# Altium integrated library IR Rectifier - Schottky.IntLib: 340 symbols (part 3 of 5)
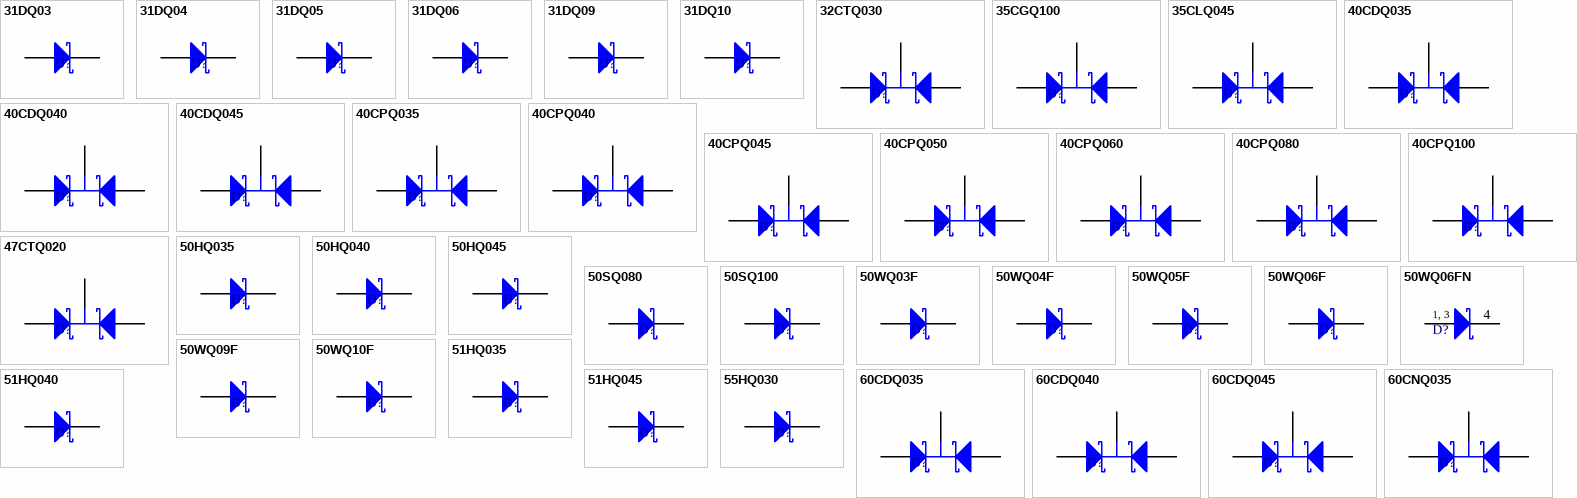
[diagram p10: symbols 31DQ03 to 60CNQ035]

## 55HQ030
designator D?
Schottky Rectifier; Note: No PCB Footprint Available; Published: 8-Jun-2000; LatestRevisionDate: 17-Jul-2002; LatestRevisionNote: Re-released for DXP Platform.; DatasheetDocument: Dec-1997; PackageReference: DO-203AB; Publisher: Altium Limited; ComponentLink1Description: Manufacturer Link; ComponentLink1URL: http://www.irf.com/; ComponentLink2Description: Datasheet; ComponentLink2URL: http://www.irf.com/product-info/datasheets/data/55hq030.pdf
simulation model 55HQ030 (DIODE)
signal-integrity model 55HQ030
pins: 1 A, 2 K

## 60CDQ035
designator D?
Schottky Rectifier; Published: 8-Jun-2000; LatestRevisionDate: 17-Jul-2002; LatestRevisionNote: Re-released for DXP Platform.; DatasheetDocument: Dec-1997; PackageReference: TO-204AE; Publisher: Altium Limited; ComponentLink1Description: Manufacturer Link; ComponentLink1URL: http://www.irf.com/; ComponentLink2Description: Datasheet; ComponentLink2URL: http://www.irf.com/product-info/datasheets/data/60cdq.pdf
footprint TO-204AE (Oval Flange Mount with (2) Offset Leads; Pin Spacing 10.92 mm; Lead Dia. 1.57 mm (max))
simulation model 60CDQ035 (SUBCKT)
signal-integrity model 60CDQ035
pins: 1 A1, 2 A2, 3 K

## 60CDQ040
designator D?
Schottky Rectifier; Published: 8-Jun-2000; LatestRevisionDate: 17-Jul-2002; LatestRevisionNote: Re-released for DXP Platform.; DatasheetDocument: Dec-1997; PackageReference: TO-204AE; Publisher: Altium Limited; ComponentLink1Description: Manufacturer Link; ComponentLink1URL: http://www.irf.com/; ComponentLink2Description: Datasheet; ComponentLink2URL: http://www.irf.com/product-info/datasheets/data/60cdq.pdf
footprint TO-204AE (Oval Flange Mount with (2) Offset Leads; Pin Spacing 10.92 mm; Lead Dia. 1.57 mm (max))
simulation model 60CDQ040 (SUBCKT)
signal-integrity model 60CDQ040
pins: 1 A1, 2 A2, 3 K

## 60CDQ045
designator D?
Schottky Rectifier; Published: 8-Jun-2000; LatestRevisionDate: 17-Jul-2002; LatestRevisionNote: Re-released for DXP Platform.; DatasheetDocument: Dec-1997; PackageReference: TO-204AE; Publisher: Altium Limited; ComponentLink1Description: Manufacturer Link; ComponentLink1URL: http://www.irf.com/; ComponentLink2Description: Datasheet; ComponentLink2URL: http://www.irf.com/product-info/datasheets/data/60cdq.pdf
footprint TO-204AE (Oval Flange Mount with (2) Offset Leads; Pin Spacing 10.92 mm; Lead Dia. 1.57 mm (max))
simulation model 60CDQ045 (SUBCKT)
signal-integrity model 60CDQ045
pins: 1 A1, 2 A2, 3 K

## 60CNQ035
designator D?
Schottky Rectifier; Note: Pin 2 (cathode) is electrically connected to BASE; Published: 8-Jun-2000; LatestRevisionDate: 17-Jul-2002; LatestRevisionNote: Re-released for DXP Platform.; DatasheetDocument: Dec-1997; PackageReference: D-61-6; Publisher: Altium Limited; ComponentLink1Description: Manufacturer Link; ComponentLink1URL: http://www.irf.com/; ComponentLink2Description: Datasheet; ComponentLink2URL: http://www.irf.com/product-info/datasheets/data/60cnq.pdf
footprint D-61-6 (Rectangular Flange Mount, Thru-Hole; 3 Leads; Pitch 5.08 mm)
signal-integrity model 60CNQ035
pins: 1 A1, 2 K, 3 A2

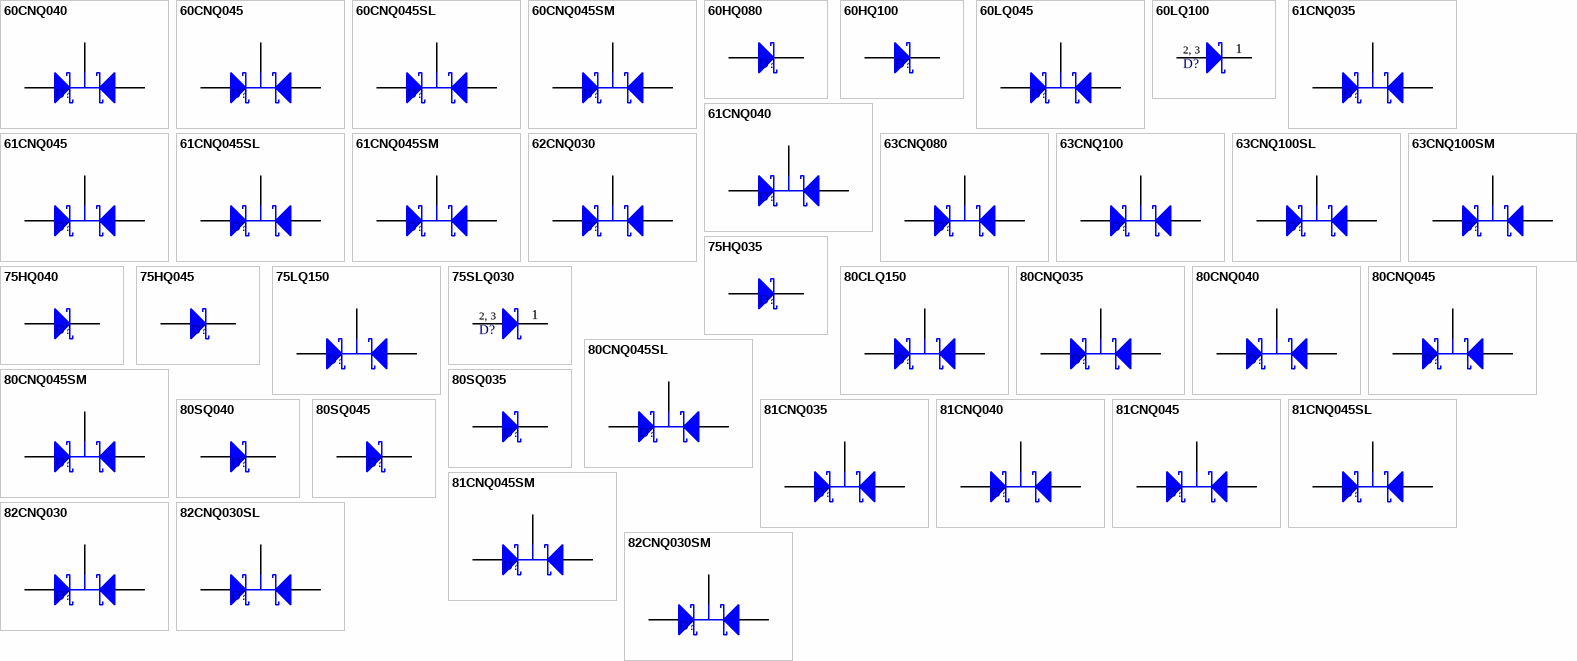
[diagram p4: symbols 60CNQ040 to 82CNQ030SM]

## 60CNQ040
designator D?
Schottky Rectifier; Note: Pin 2 (cathode) is electrically connected to BASE; Published: 8-Jun-2000; LatestRevisionDate: 17-Jul-2002; LatestRevisionNote: Re-released for DXP Platform.; DatasheetDocument: Dec-1997; PackageReference: D-61-6; Publisher: Altium Limited; ComponentLink1Description: Manufacturer Link; ComponentLink1URL: http://www.irf.com/; ComponentLink2Description: Datasheet; ComponentLink2URL: http://www.irf.com/product-info/datasheets/data/60cnq.pdf
footprint D-61-6 (Rectangular Flange Mount, Thru-Hole; 3 Leads; Pitch 5.08 mm)
signal-integrity model 60CNQ040
pins: 1 A1, 2 K, 3 A2

## 60CNQ045
designator D?
Schottky Rectifier; Note: Pin 2 (cathode) is electrically connected to BASE; Published: 8-Jun-2000; LatestRevisionDate: 17-Jul-2002; LatestRevisionNote: Re-released for DXP Platform.; DatasheetDocument: Dec-1997; PackageReference: D-61-6; Publisher: Altium Limited; ComponentLink1Description: Manufacturer Link; ComponentLink1URL: http://www.irf.com/; ComponentLink2Description: Datasheet; ComponentLink2URL: http://www.irf.com/product-info/datasheets/data/60cnq.pdf
footprint D-61-6 (Rectangular Flange Mount, Thru-Hole; 3 Leads; Pitch 5.08 mm)
signal-integrity model 60CNQ045
pins: 1 A1, 2 K, 3 A2

## 60CNQ045SL
designator D?
Schottky Rectifier; Note: Pin 2 (cathode) is trimmed but is electrically connected to BASE; Published: 8-Jun-2000; LatestRevisionDate: 17-Jul-2002; LatestRevisionNote: Re-released for DXP Platform.; DatasheetDocument: Aug-1995; PackageDocument: Aug-1995; PackageReference: SLD61-6; Publisher: Altium Limited; ComponentLink1Description: Manufacturer Link; ComponentLink1URL: http://www.irf.com/
footprint SLD61-6 (Single-Ended SM Package; 3 Leads (1 Cropped); Body (inc. leads) 14.3 x 20 mm (LxW max))
signal-integrity model 60CNQ045SL
pins: 1 A1, 2 K, 3 A2

## 60CNQ045SM
designator D?
Schottky Rectifier; Note: Pin 2 (cathode) is electrically connected to BASE; Published: 8-Jun-2000; LatestRevisionDate: 17-Jul-2002; LatestRevisionNote: Re-released for DXP Platform.; DatasheetDocument: Aug-1995; PackageReference: SMD61-6; Publisher: Altium Limited; ComponentLink1Description: Manufacturer Link; ComponentLink1URL: http://www.irf.com/
footprint SMD61-6 (Rectangular Flange Mount, Thru-Hole; 3 Leads; Pitch 5.08 mm)
signal-integrity model 60CNQ045SM
pins: 1 A1, 2 K, 3 A2

## 60HQ080
designator D?
Schottky Rectifier; Note: No PCB Footprint Available; Published: 8-Jun-2000; LatestRevisionDate: 17-Jul-2002; LatestRevisionNote: Re-released for DXP Platform.; DatasheetDocument: Dec-1997; PackageReference: DO-203AB; Publisher: Altium Limited; ComponentLink1Description: Manufacturer Link; ComponentLink1URL: http://www.irf.com/; ComponentLink2Description: Datasheet; ComponentLink2URL: http://www.irf.com/product-info/datasheets/data/60hq.pdf
simulation model 60HQ080 (DIODE)
signal-integrity model 60HQ080
pins: 1 A, 2 K

## 60HQ100
designator D?
Schottky Rectifier; Note: No PCB Footprint Available; Published: 8-Jun-2000; LatestRevisionDate: 17-Jul-2002; LatestRevisionNote: Re-released for DXP Platform.; DatasheetDocument: Dec-1997; PackageReference: DO-203AB; Publisher: Altium Limited; ComponentLink1Description: Manufacturer Link; ComponentLink1URL: http://www.irf.com/; ComponentLink2Description: Datasheet; ComponentLink2URL: http://www.irf.com/product-info/datasheets/data/60hq.pdf
simulation model 60HQ100 (DIODE)
signal-integrity model 60HQ100
pins: 1 A, 2 K

## 60LQ045
designator D?
Schottky Rectifier; Published: 17-Sep-2003; DatasheetDocument: 20-Mar-2002; PackageDocument: 10-Jul-2001; PackageReference: SMD-1; Publisher: Altium Limited; ComponentLink1Description: Manufacturer Link; ComponentLink1URL: http://www.irf.com/; ComponentLink2Description: Datasheet; ComponentLink2URL: http://www.irf.com/product-info/datasheets/data/60LQ045.pdf
footprint SMD-1 (SM; 3 Leadless Terminals; Body 16 x 11.55 x 3.58 mm (LxWxH))
simulation model 60LQ045 (SUBCKT)
pins: 1 K, 2 A1, 3 A2

## 60LQ100
designator D?
Schottky Rectifier; Published: 17-Sep-2003; DatasheetDocument: PD-20505A; PackageDocument: 10-Jul-2001; PackageReference: SMD-1; Publisher: Altium Limited; ComponentLink1Description: Manufacturer Link; ComponentLink1URL: http://www.irf.com/; ComponentLink2Description: Datasheet; ComponentLink2URL: http://www.irf.com/product-info/datasheets/data/60LQ100.pdf
footprint SMD-1 (SM; 3 Leadless Terminals; Body 16 x 11.55 x 3.58 mm (LxWxH))
simulation model 60LQ100 (DIODE)
pins: 1 K, 2 A1, 3 A2
text: 2, 3

## 61CNQ035
designator D?
Schottky Rectifier; Note: Pin 2 (cathode) is electrically connected to BASE; Published: 8-Jun-2000; LatestRevisionDate: 17-Jul-2002; LatestRevisionNote: Re-released for DXP Platform.; DatasheetDocument: Dec-1997; PackageReference: D-61-6; Publisher: Altium Limited; ComponentLink1Description: Manufacturer Link; ComponentLink1URL: http://www.irf.com/; ComponentLink2Description: Datasheet; ComponentLink2URL: http://www.irf.com/product-info/datasheets/data/61cnq.pdf
footprint D-61-6 (Rectangular Flange Mount, Thru-Hole; 3 Leads; Pitch 5.08 mm)
signal-integrity model 61CNQ035
pins: 1 A1, 2 K, 3 A2

## 61CNQ040
designator D?
Schottky Rectifier; Note: Pin 2 (cathode) is electrically connected to BASE; Published: 8-Jun-2000; LatestRevisionDate: 17-Jul-2002; LatestRevisionNote: Re-released for DXP Platform.; DatasheetDocument: Dec-1997; PackageReference: D-61-6; Publisher: Altium Limited; ComponentLink1Description: Manufacturer Link; ComponentLink1URL: http://www.irf.com/; ComponentLink2Description: Datasheet; ComponentLink2URL: http://www.irf.com/product-info/datasheets/data/61cnq.pdf
footprint D-61-6 (Rectangular Flange Mount, Thru-Hole; 3 Leads; Pitch 5.08 mm)
signal-integrity model 61CNQ040
pins: 1 A1, 2 K, 3 A2

## 61CNQ045
designator D?
Schottky Rectifier; Note: Pin 2 (cathode) is electrically connected to BASE; Published: 8-Jun-2000; LatestRevisionDate: 17-Jul-2002; LatestRevisionNote: Re-released for DXP Platform.; DatasheetDocument: Dec-1997; PackageReference: D-61-6; Publisher: Altium Limited; ComponentLink1Description: Manufacturer Link; ComponentLink1URL: http://www.irf.com/; ComponentLink2Description: Datasheet; ComponentLink2URL: http://www.irf.com/product-info/datasheets/data/61cnq.pdf
footprint D-61-6 (Rectangular Flange Mount, Thru-Hole; 3 Leads; Pitch 5.08 mm)
signal-integrity model 61CNQ045
pins: 1 A1, 2 K, 3 A2

## 61CNQ045SL
designator D?
Schottky Rectifier; Note: Pin 2 (cathode) is trimmed but is electrically connected to BASE; Published: 8-Jun-2000; LatestRevisionDate: 17-Jul-2002; LatestRevisionNote: Re-released for DXP Platform.; DatasheetDocument: Aug-1995; PackageDocument: Aug-1995; PackageReference: SLD61-6; Publisher: Altium Limited; ComponentLink1Description: Manufacturer Link; ComponentLink1URL: http://www.irf.com/
footprint SLD61-6 (Single-Ended SM Package; 3 Leads (1 Cropped); Body (inc. leads) 14.3 x 20 mm (LxW max))
signal-integrity model 61CNQ045SL
pins: 1 A1, 2 K, 3 A2

## 61CNQ045SM
designator D?
Schottky Rectifier; Note: Pin 2 (cathode) is electrically connected to BASE; Published: 8-Jun-2000; LatestRevisionDate: 17-Jul-2002; LatestRevisionNote: Re-released for DXP Platform.; DatasheetDocument: Aug-1995; PackageReference: SMD61-6; Publisher: Altium Limited; ComponentLink1Description: Manufacturer Link; ComponentLink1URL: http://www.irf.com/
footprint SMD61-6 (Rectangular Flange Mount, Thru-Hole; 3 Leads; Pitch 5.08 mm)
signal-integrity model 61CNQ045SM
pins: 1 A1, 2 K, 3 A2

## 62CNQ030
designator D?
Schottky Rectifier; Note: Pin 2 (cathode) is electrically connected to BASE; Published: 8-Jun-2000; LatestRevisionDate: 17-Jul-2002; LatestRevisionNote: Re-released for DXP Platform.; DatasheetDocument: Dec-1997; PackageReference: D-61-6; Publisher: Altium Limited; ComponentLink1Description: Manufacturer Link; ComponentLink1URL: http://www.irf.com/; ComponentLink2Description: Datasheet; ComponentLink2URL: http://www.irf.com/product-info/datasheets/data/62cnq030.pdf
footprint D-61-6 (Rectangular Flange Mount, Thru-Hole; 3 Leads; Pitch 5.08 mm)
signal-integrity model 62CNQ030
pins: 1 A1, 2 K, 3 A2

## 63CNQ080
designator D?
Schottky Rectifier; Note: Pin 2 (cathode) is electrically connected to BASE; Published: 8-Jun-2000; LatestRevisionDate: 17-Jul-2002; LatestRevisionNote: Re-released for DXP Platform.; DatasheetDocument: Dec-1997; PackageReference: D-61-6; Publisher: Altium Limited; ComponentLink1Description: Manufacturer Link; ComponentLink1URL: http://www.irf.com/; ComponentLink2Description: Datasheet; ComponentLink2URL: http://www.irf.com/product-info/datasheets/data/63cnq.pdf
footprint D-61-6 (Rectangular Flange Mount, Thru-Hole; 3 Leads; Pitch 5.08 mm)
signal-integrity model 63CNQ080
pins: 1 A1, 2 K, 3 A2

## 63CNQ100
designator D?
Schottky Rectifier; Note: Pin 2 (cathode) is electrically connected to BASE; Published: 8-Jun-2000; LatestRevisionDate: 17-Jul-2002; LatestRevisionNote: Re-released for DXP Platform.; DatasheetDocument: Dec-1997; PackageReference: D-61-6; Publisher: Altium Limited; ComponentLink1Description: Manufacturer Link; ComponentLink1URL: http://www.irf.com/; ComponentLink2Description: Datasheet; ComponentLink2URL: http://www.irf.com/product-info/datasheets/data/63cnq.pdf
footprint D-61-6 (Rectangular Flange Mount, Thru-Hole; 3 Leads; Pitch 5.08 mm)
signal-integrity model 63CNQ100
pins: 1 A1, 2 K, 3 A2

## 63CNQ100SL
designator D?
Schottky Rectifier; Note: Pin 2 (cathode) is trimmed but is electrically connected to BASE; Published: 8-Jun-2000; LatestRevisionDate: 17-Jul-2002; LatestRevisionNote: Re-released for DXP Platform.; DatasheetDocument: Aug-1995; PackageDocument: Aug-1995; PackageReference: SLD61-6; Publisher: Altium Limited; ComponentLink1Description: Manufacturer Link; ComponentLink1URL: http://www.irf.com/
footprint SLD61-6 (Single-Ended SM Package; 3 Leads (1 Cropped); Body (inc. leads) 14.3 x 20 mm (LxW max))
signal-integrity model 63CNQ100SL
pins: 1 A1, 2 K, 3 A2

## 63CNQ100SM
designator D?
Schottky Rectifier; Note: Pin 2 (cathode) is electrically connected to BASE; Published: 8-Jun-2000; LatestRevisionDate: 17-Jul-2002; LatestRevisionNote: Re-released for DXP Platform.; DatasheetDocument: Aug-1995; PackageReference: SMD61-6; Publisher: Altium Limited; ComponentLink1Description: Manufacturer Link; ComponentLink1URL: http://www.irf.com/
footprint SMD61-6 (Rectangular Flange Mount, Thru-Hole; 3 Leads; Pitch 5.08 mm)
signal-integrity model 63CNQ100SM
pins: 1 A1, 2 K, 3 A2

## 75HQ035
designator D?
Schottky Rectifier; Note: No PCB Footprint Available; Published: 8-Jun-2000; LatestRevisionDate: 17-Jul-2002; LatestRevisionNote: Re-released for DXP Platform.; DatasheetDocument: Dec-1997; PackageReference: DO-203AB; Publisher: Altium Limited; ComponentLink1Description: Manufacturer Link; ComponentLink1URL: http://www.irf.com/; ComponentLink2Description: Datasheet; ComponentLink2URL: http://www.irf.com/product-info/datasheets/data/75hq.pdf
simulation model 75HQ035 (DIODE)
signal-integrity model 75HQ035
pins: 1 A, 2 K

## 75HQ040
designator D?
Schottky Rectifier; Note: No PCB Footprint Available; Published: 8-Jun-2000; LatestRevisionDate: 17-Jul-2002; LatestRevisionNote: Re-released for DXP Platform.; DatasheetDocument: Dec-1997; PackageReference: DO-203AB; Publisher: Altium Limited; ComponentLink1Description: Manufacturer Link; ComponentLink1URL: http://www.irf.com/; ComponentLink2Description: Datasheet; ComponentLink2URL: http://www.irf.com/product-info/datasheets/data/75hq.pdf
simulation model 75HQ040 (DIODE)
signal-integrity model 75HQ040
pins: 1 A, 2 K

## 75HQ045
designator D?
Schottky Rectifier; Note: No PCB Footprint Available; Published: 8-Jun-2000; LatestRevisionDate: 17-Jul-2002; LatestRevisionNote: Re-released for DXP Platform.; DatasheetDocument: Dec-1997; PackageReference: DO-203AB; Publisher: Altium Limited; ComponentLink1Description: Manufacturer Link; ComponentLink1URL: http://www.irf.com/; ComponentLink2Description: Datasheet; ComponentLink2URL: http://www.irf.com/product-info/datasheets/data/75hq.pdf
simulation model 75HQ045 (DIODE)
signal-integrity model 75HQ045
pins: 1 A, 2 K

## 75LQ150
designator D?
Schottky Rectifier; Published: 17-Sep-2003; DatasheetDocument: 26-Apr-2002; PackageDocument: 10-Jul-2001; PackageReference: SMD-1; Publisher: Altium Limited; ComponentLink1Description: Manufacturer Link; ComponentLink1URL: http://www.irf.com/; ComponentLink2Description: Datasheet; ComponentLink2URL: http://www.irf.com/product-info/datasheets/data/75LQ150.pdf
footprint SMD-1 (SM; 3 Leadless Terminals; Body 16 x 11.55 x 3.58 mm (LxWxH))
simulation model 75LQ150 (SUBCKT)
pins: 1 K, 2 A1, 3 A2

## 75SLQ030
designator D?
Schottky Rectifier; Published: 17-Sep-2003; DatasheetDocument: 29-Jun-2001; PackageDocument: 10-Jul-2001; PackageReference: SMD-1; Publisher: Altium Limited; ComponentLink1Description: Manufacturer Link; ComponentLink1URL: http://www.irf.com/; ComponentLink2Description: Datasheet; ComponentLink2URL: http://www.irf.com/product-info/datasheets/data/75SLQ030.pdf
footprint SMD-1 (SM; 3 Leadless Terminals; Body 16 x 11.55 x 3.58 mm (LxWxH))
simulation model 75SLQ030 (DIODE)
pins: 1 K, 2 A1, 3 A2
text: 2, 3

## 80CLQ150
designator D?
Schottky Rectifier; Published: 17-Sep-2003; DatasheetDocument: 10-Aug-2001; PackageDocument: 10-Jul-2001; PackageReference: SMD-1; Publisher: Altium Limited; ComponentLink1Description: Manufacturer Link; ComponentLink1URL: http://www.irf.com/; ComponentLink2Description: Datasheet; ComponentLink2URL: http://www.irf.com/product-info/datasheets/data/80CLQ150.pdf
footprint SMD-1 (SM; 3 Leadless Terminals; Body 16 x 11.55 x 3.58 mm (LxWxH))
simulation model 80CLQ150 (SUBCKT)
pins: 1 K, 2 A1, 3 A2

## 80CNQ035
designator D?
Schottky Rectifier; Note: Pin 2 (cathode) is electrically connected to BASE; Published: 8-Jun-2000; LatestRevisionDate: 17-Jul-2002; LatestRevisionNote: Re-released for DXP Platform.; DatasheetDocument: Jan-1999; PackageDocument: Jan-1999; PackageReference: D61-8; Publisher: Altium Limited; ComponentLink1Description: Manufacturer Link; ComponentLink1URL: http://www.irf.com/; ComponentLink2Description: Datasheet; ComponentLink2URL: http://www.irf.com/product-info/datasheets/data/80cnq.pdf
footprint D61-8 (Rectangular Flange Mount, Thru-Hole; 3 Leads; Pitch 5.08 mm)
signal-integrity model 80CNQ035
pins: 1 A1, 2 K, 3 A2

## 80CNQ040
designator D?
Schottky Rectifier; Note: Pin 2 (cathode) is electrically connected to BASE; Published: 8-Jun-2000; LatestRevisionDate: 17-Jul-2002; LatestRevisionNote: Re-released for DXP Platform.; DatasheetDocument: Jan-1999; PackageDocument: Jan-1999; PackageReference: D61-8; Publisher: Altium Limited; ComponentLink1Description: Manufacturer Link; ComponentLink1URL: http://www.irf.com/; ComponentLink2Description: Datasheet; ComponentLink2URL: http://www.irf.com/product-info/datasheets/data/80cnq.pdf
footprint D61-8 (Rectangular Flange Mount, Thru-Hole; 3 Leads; Pitch 5.08 mm)
signal-integrity model 80CNQ040
pins: 1 A1, 2 K, 3 A2

## 80CNQ045
designator D?
Schottky Rectifier; Note: Pin 2 (cathode) is electrically connected to BASE; Published: 8-Jun-2000; LatestRevisionDate: 17-Jul-2002; LatestRevisionNote: Re-released for DXP Platform.; DatasheetDocument: Jan-1999; PackageDocument: Jan-1999; PackageReference: D61-8; Publisher: Altium Limited; ComponentLink1Description: Manufacturer Link; ComponentLink1URL: http://www.irf.com/; ComponentLink2Description: Datasheet; ComponentLink2URL: http://www.irf.com/product-info/datasheets/data/80cnq.pdf
footprint D61-8 (Rectangular Flange Mount, Thru-Hole; 3 Leads; Pitch 5.08 mm)
signal-integrity model 80CNQ045
pins: 1 A1, 2 K, 3 A2

## 80CNQ045SL
designator D?
Schottky Rectifier; Note: Pin 2 (cathode) is trimmed but is electrically connected to BASE; Published: 8-Jun-2000; LatestRevisionDate: 17-Jul-2002; LatestRevisionNote: Re-released for DXP Platform.; DatasheetDocument: Jan-1999; PackageDocument: Jan-1999; PackageReference: D61-8-SL; Publisher: Altium Limited; ComponentLink1Description: Manufacturer Link; ComponentLink1URL: http://www.irf.com/; ComponentLink2Description: Datasheet; ComponentLink2URL: http://www.irf.com/product-info/datasheets/data/80cnq.pdf
footprint D61-8-SL (Single-Ended SM Package; 3 Leads (1 Cropped); Body (inc. leads) 14.4 x 19.9 mm (LxW max))
signal-integrity model 80CNQ045SL
pins: 1 A1, 2 K, 3 A2

## 80CNQ045SM
designator D?
Schottky Rectifier; Note: Pin 2 (cathode) is electrically connected to BASE; Published: 8-Jun-2000; LatestRevisionDate: 17-Jul-2002; LatestRevisionNote: Re-released for DXP Platform.; DatasheetDocument: Jan-1999; PackageDocument: Jan-1999; PackageReference: D61-8SM; Publisher: Altium Limited; ComponentLink1Description: Manufacturer Link; ComponentLink1URL: http://www.irf.com/; ComponentLink2Description: Datasheet; ComponentLink2URL: http://www.irf.com/product-info/datasheets/data/80cnq.pdf
footprint D61-8SM (Rectangular Flange Mount, Thru-Hole; 3 Leads; Pitch 5.08 mm)
signal-integrity model 80CNQ045SM
pins: 1 A1, 2 K, 3 A2

## 80SQ035
designator D?
Schottky Rectifier; Published: 8-Jun-2000; LatestRevisionDate: 17-Jul-2002; LatestRevisionNote: Re-released for DXP Platform.; DatasheetDocument: Dec-1997; PackageReference: DO-204AR; Publisher: Altium Limited; Code_JEDEC: DO-204-AR; ComponentLink1Description: Manufacturer Link; ComponentLink1URL: http://www.irf.com/; ComponentLink2Description: Datasheet; ComponentLink2URL: http://www.irf.com/product-info/datasheets/data/80sq.pdf
footprint DO-204AR (Diode, Axial; Body 9.5 x 6.4 mm (LxDia. max), Lead Dia. 1.32 mm (max))
signal-integrity model 80SQ035
pins: 1 A, 2 K

## 80SQ040
designator D?
Schottky Rectifier; Published: 8-Jun-2000; LatestRevisionDate: 17-Jul-2002; LatestRevisionNote: Re-released for DXP Platform.; DatasheetDocument: Dec-1997; PackageReference: DO-204AR; Publisher: Altium Limited; Code_JEDEC: DO-204-AR; ComponentLink1Description: Manufacturer Link; ComponentLink1URL: http://www.irf.com/; ComponentLink2Description: Datasheet; ComponentLink2URL: http://www.irf.com/product-info/datasheets/data/80sq.pdf
footprint DO-204AR (Diode, Axial; Body 9.5 x 6.4 mm (LxDia. max), Lead Dia. 1.32 mm (max))
signal-integrity model 80SQ040
pins: 1 A, 2 K

## 80SQ045
designator D?
Schottky Rectifier; Published: 8-Jun-2000; LatestRevisionDate: 17-Jul-2002; LatestRevisionNote: Re-released for DXP Platform.; DatasheetDocument: Dec-1997; PackageReference: DO-204AR; Publisher: Altium Limited; Code_JEDEC: DO-204-AR; ComponentLink1Description: Manufacturer Link; ComponentLink1URL: http://www.irf.com/; ComponentLink2Description: Datasheet; ComponentLink2URL: http://www.irf.com/product-info/datasheets/data/80sq.pdf
footprint DO-204AR (Diode, Axial; Body 9.5 x 6.4 mm (LxDia. max), Lead Dia. 1.32 mm (max))
signal-integrity model 80SQ045
pins: 1 A, 2 K

## 81CNQ035
designator D?
Schottky Rectifier; Note: Pin 2 (cathode) is electrically connected to BASE; Published: 8-Jun-2000; LatestRevisionDate: 17-Jul-2002; LatestRevisionNote: Re-released for DXP Platform.; DatasheetDocument: Jan-1999; PackageDocument: Jan-1999; PackageReference: D61-8; Publisher: Altium Limited; ComponentLink1Description: Manufacturer Link; ComponentLink1URL: http://www.irf.com/; ComponentLink2Description: Datasheet; ComponentLink2URL: http://www.irf.com/product-info/datasheets/data/81cnq.pdf
footprint D61-8 (Rectangular Flange Mount, Thru-Hole; 3 Leads; Pitch 5.08 mm)
signal-integrity model 81CNQ035
pins: 1 A1, 2 K, 3 A2

## 81CNQ040
designator D?
Schottky Rectifier; Note: Pin 2 (cathode) is electrically connected to BASE; Published: 8-Jun-2000; LatestRevisionDate: 17-Jul-2002; LatestRevisionNote: Re-released for DXP Platform.; DatasheetDocument: Jan-1999; PackageDocument: Jan-1999; PackageReference: D61-8; Publisher: Altium Limited; ComponentLink1Description: Manufacturer Link; ComponentLink1URL: http://www.irf.com/; ComponentLink2Description: Datasheet; ComponentLink2URL: http://www.irf.com/product-info/datasheets/data/81cnq.pdf
footprint D61-8 (Rectangular Flange Mount, Thru-Hole; 3 Leads; Pitch 5.08 mm)
signal-integrity model 81CNQ040
pins: 1 A1, 2 K, 3 A2

## 81CNQ045
designator D?
Schottky Rectifier; Note: Pin 2 (cathode) is electrically connected to BASE; Published: 8-Jun-2000; LatestRevisionDate: 17-Jul-2002; LatestRevisionNote: Re-released for DXP Platform.; DatasheetDocument: Jan-1999; PackageDocument: Jan-1999; PackageReference: D61-8; Publisher: Altium Limited; ComponentLink1Description: Manufacturer Link; ComponentLink1URL: http://www.irf.com/; ComponentLink2Description: Datasheet; ComponentLink2URL: http://www.irf.com/product-info/datasheets/data/81cnq.pdf
footprint D61-8 (Rectangular Flange Mount, Thru-Hole; 3 Leads; Pitch 5.08 mm)
signal-integrity model 81CNQ045
pins: 1 A1, 2 K, 3 A2

## 81CNQ045SL
designator D?
Schottky Rectifier; Note: Pin 2 (cathode) is trimmed but is electrically connected to BASE; Published: 8-Jun-2000; LatestRevisionDate: 17-Jul-2002; LatestRevisionNote: Re-released for DXP Platform.; DatasheetDocument: Jan-1999; PackageDocument: Jan-1999; PackageReference: D61-8-SL; Publisher: Altium Limited; ComponentLink1Description: Manufacturer Link; ComponentLink1URL: http://www.irf.com/; ComponentLink2Description: Datasheet; ComponentLink2URL: http://www.irf.com/product-info/datasheets/data/81cnq.pdf
footprint D61-8-SL (Single-Ended SM Package; 3 Leads (1 Cropped); Body (inc. leads) 14.4 x 19.9 mm (LxW max))
signal-integrity model 81CNQ045SL
pins: 1 A1, 2 K, 3 A2

## 81CNQ045SM
designator D?
Schottky Rectifier; Note: Pin 2 (cathode) is electrically connected to BASE; Published: 8-Jun-2000; LatestRevisionDate: 17-Jul-2002; LatestRevisionNote: Re-released for DXP Platform.; DatasheetDocument: Jan-1999; PackageDocument: Jan-1999; PackageReference: D61-8SM; Publisher: Altium Limited; ComponentLink1Description: Manufacturer Link; ComponentLink1URL: http://www.irf.com/; ComponentLink2Description: Datasheet; ComponentLink2URL: http://www.irf.com/product-info/datasheets/data/81cnq.pdf
footprint D61-8SM (Rectangular Flange Mount, Thru-Hole; 3 Leads; Pitch 5.08 mm)
signal-integrity model 81CNQ045SM
pins: 1 A1, 2 K, 3 A2

## 82CNQ030
designator D?
Schottky Rectifier; Note: Pin 2 (cathode) is electrically connected to BASE; Published: 8-Jun-2000; LatestRevisionDate: 17-Jul-2002; LatestRevisionNote: Re-released for DXP Platform.; DatasheetDocument: Jan-1999; PackageDocument: Jan-1999; PackageReference: D61-8; Publisher: Altium Limited; ComponentLink1Description: Manufacturer Link; ComponentLink1URL: http://www.irf.com/; ComponentLink2Description: Datasheet; ComponentLink2URL: http://www.irf.com/product-info/datasheets/data/82cnq030.pdf
footprint D61-8 (Rectangular Flange Mount, Thru-Hole; 3 Leads; Pitch 5.08 mm)
signal-integrity model 82CNQ030
pins: 1 A1, 2 K, 3 A2

## 82CNQ030SL
designator D?
Schottky Rectifier; Note: Pin 2 (cathode) is trimmed but is electrically connected to BASE; Published: 8-Jun-2000; LatestRevisionDate: 17-Jul-2002; LatestRevisionNote: Re-released for DXP Platform.; DatasheetDocument: Jan-1999; PackageDocument: Jan-1999; PackageReference: D61-8-SL; Publisher: Altium Limited; ComponentLink1Description: Manufacturer Link; ComponentLink1URL: http://www.irf.com/; ComponentLink2Description: Datasheet; ComponentLink2URL: http://www.irf.com/product-info/datasheets/data/82cnq030.pdf
footprint D61-8-SL (Single-Ended SM Package; 3 Leads (1 Cropped); Body (inc. leads) 14.4 x 19.9 mm (LxW max))
signal-integrity model 82CNQ030SL
pins: 1 A1, 2 K, 3 A2

## 82CNQ030SM
designator D?
Schottky Rectifier; Note: Pin 2 (cathode) is electrically connected to BASE; Published: 8-Jun-2000; LatestRevisionDate: 17-Jul-2002; LatestRevisionNote: Re-released for DXP Platform.; DatasheetDocument: Jan-1999; PackageDocument: Jan-1999; PackageReference: D61-8SM; Publisher: Altium Limited; ComponentLink1Description: Manufacturer Link; ComponentLink1URL: http://www.irf.com/; ComponentLink2Description: Datasheet; ComponentLink2URL: http://www.irf.com/product-info/datasheets/data/82cnq030.pdf
footprint D61-8SM (Rectangular Flange Mount, Thru-Hole; 3 Leads; Pitch 5.08 mm)
signal-integrity model 82CNQ030SM
pins: 1 A1, 2 K, 3 A2

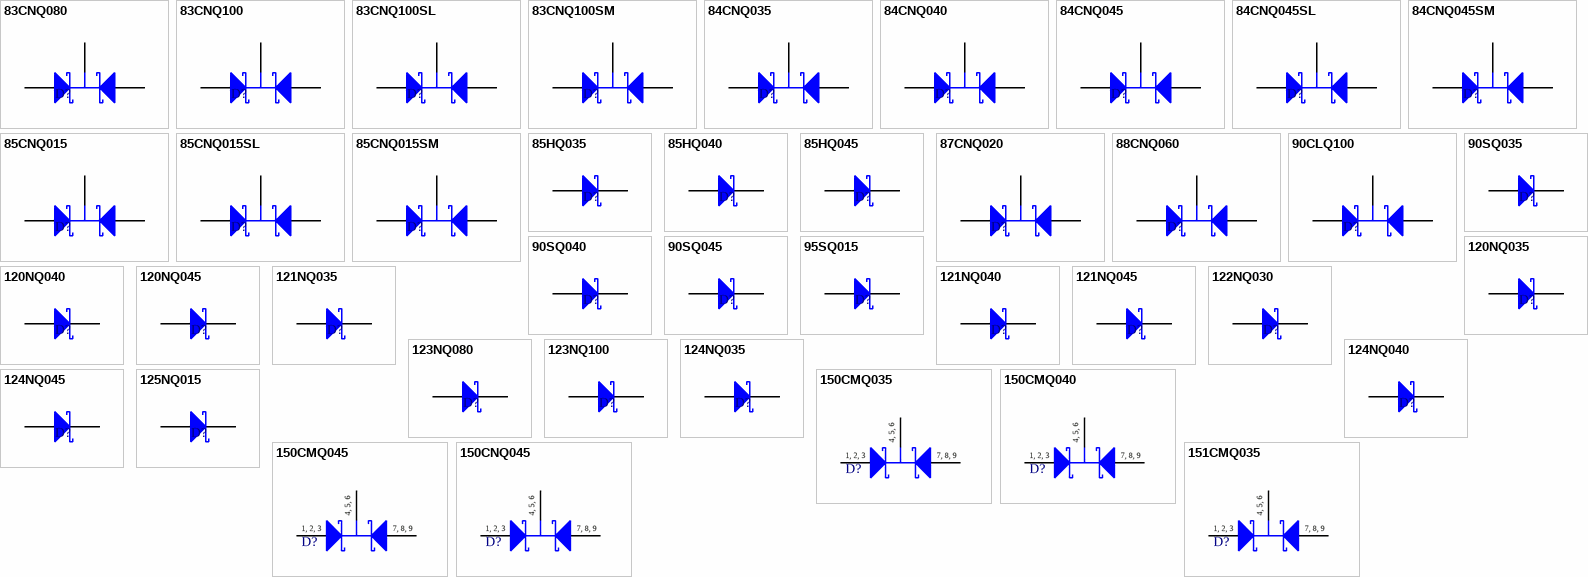
[diagram p5: symbols 83CNQ080 to 151CMQ035]

## 83CNQ080
designator D?
Schottky Rectifier; Note: Pin 2 (cathode) is electrically connected to BASE; Published: 8-Jun-2000; LatestRevisionDate: 17-Jul-2002; LatestRevisionNote: Re-released for DXP Platform.; DatasheetDocument: Jan-1999; PackageDocument: Jan-1999; PackageReference: D61-8; Publisher: Altium Limited; ComponentLink1Description: Manufacturer Link; ComponentLink1URL: http://www.irf.com/; ComponentLink2Description: Datasheet; ComponentLink2URL: http://www.irf.com/product-info/datasheets/data/83cnq.pdf
footprint D61-8 (Rectangular Flange Mount, Thru-Hole; 3 Leads; Pitch 5.08 mm)
signal-integrity model 83CNQ080
pins: 1 A1, 2 K, 3 A2

## 83CNQ100
designator D?
Schottky Rectifier; Note: Pin 2 (cathode) is electrically connected to BASE; Published: 8-Jun-2000; LatestRevisionDate: 17-Jul-2002; LatestRevisionNote: Re-released for DXP Platform.; DatasheetDocument: Jan-1999; PackageDocument: Jan-1999; PackageReference: D61-8; Publisher: Altium Limited; ComponentLink1Description: Manufacturer Link; ComponentLink1URL: http://www.irf.com/; ComponentLink2Description: Datasheet; ComponentLink2URL: http://www.irf.com/product-info/datasheets/data/83cnq.pdf
footprint D61-8 (Rectangular Flange Mount, Thru-Hole; 3 Leads; Pitch 5.08 mm)
signal-integrity model 83CNQ100
pins: 1 A1, 2 K, 3 A2

## 83CNQ100SL
designator D?
Schottky Rectifier; Note: Pin 2 (cathode) is trimmed but is electrically connected to BASE; Published: 8-Jun-2000; LatestRevisionDate: 17-Jul-2002; LatestRevisionNote: Re-released for DXP Platform.; DatasheetDocument: Jan-1999; PackageDocument: Jan-1999; PackageReference: D61-8-SL; Publisher: Altium Limited; ComponentLink1Description: Manufacturer Link; ComponentLink1URL: http://www.irf.com/; ComponentLink2Description: Datasheet; ComponentLink2URL: http://www.irf.com/product-info/datasheets/data/83cnq.pdf
footprint D61-8-SL (Single-Ended SM Package; 3 Leads (1 Cropped); Body (inc. leads) 14.4 x 19.9 mm (LxW max))
signal-integrity model 83CNQ100SL
pins: 1 A1, 2 K, 3 A2

## 83CNQ100SM
designator D?
Schottky Rectifier; Note: Pin 2 (cathode) is electrically connected to BASE; Published: 8-Jun-2000; LatestRevisionDate: 17-Jul-2002; LatestRevisionNote: Re-released for DXP Platform.; DatasheetDocument: Jan-1999; PackageDocument: Jan-1999; PackageReference: D61-8SM; Publisher: Altium Limited; ComponentLink1Description: Manufacturer Link; ComponentLink1URL: http://www.irf.com/; ComponentLink2Description: Datasheet; ComponentLink2URL: http://www.irf.com/product-info/datasheets/data/83cnq.pdf
footprint D61-8SM (Rectangular Flange Mount, Thru-Hole; 3 Leads; Pitch 5.08 mm)
signal-integrity model 83CNQ100SM
pins: 1 A1, 2 K, 3 A2

## 84CNQ035
designator D?
Schottky Rectifier; Note: Pin 2 (cathode) is electrically connected to BASE; Published: 8-Jun-2000; LatestRevisionDate: 17-Jul-2002; LatestRevisionNote: Re-released for DXP Platform.; DatasheetDocument: Jan-1999; PackageDocument: Jan-1999; PackageReference: D61-8; Publisher: Altium Limited; ComponentLink1Description: Manufacturer Link; ComponentLink1URL: http://www.irf.com/
footprint D61-8 (Rectangular Flange Mount, Thru-Hole; 3 Leads; Pitch 5.08 mm)
simulation model 84CNQ035 (SUBCKT)
signal-integrity model 84CNQ035
pins: 1 A1, 2 K, 3 A2

## 84CNQ040
designator D?
Schottky Rectifier; Note: Pin 2 (cathode) is electrically connected to BASE; Published: 8-Jun-2000; LatestRevisionDate: 17-Jul-2002; LatestRevisionNote: Re-released for DXP Platform.; DatasheetDocument: Jan-1999; PackageDocument: Jan-1999; PackageReference: D61-8; Publisher: Altium Limited; ComponentLink1Description: Manufacturer Link; ComponentLink1URL: http://www.irf.com/
footprint D61-8 (Rectangular Flange Mount, Thru-Hole; 3 Leads; Pitch 5.08 mm)
simulation model 84CNQ040 (SUBCKT)
signal-integrity model 84CNQ040
pins: 1 A1, 2 K, 3 A2

## 84CNQ045
designator D?
Schottky Rectifier; Note: Pin 2 (cathode) is electrically connected to BASE; Published: 8-Jun-2000; LatestRevisionDate: 17-Jul-2002; LatestRevisionNote: Re-released for DXP Platform.; DatasheetDocument: Jan-1999; PackageDocument: Jan-1999; PackageReference: D61-8; Publisher: Altium Limited; ComponentLink1Description: Manufacturer Link; ComponentLink1URL: http://www.irf.com/
footprint D61-8 (Rectangular Flange Mount, Thru-Hole; 3 Leads; Pitch 5.08 mm)
simulation model 84CNQ045 (SUBCKT)
signal-integrity model 84CNQ045
pins: 1 A1, 2 K, 3 A2

## 84CNQ045SL
designator D?
Schottky Rectifier; Note: Pin 2 (cathode) is trimmed but is electrically connected to BASE; Published: 8-Jun-2000; LatestRevisionDate: 17-Jul-2002; LatestRevisionNote: Re-released for DXP Platform.; DatasheetDocument: Jan-1999; PackageDocument: Jan-1999; PackageReference: D61-8-SL; Publisher: Altium Limited; ComponentLink1Description: Manufacturer Link; ComponentLink1URL: http://www.irf.com/
footprint D61-8-SL (Single-Ended SM Package; 3 Leads (1 Cropped); Body (inc. leads) 14.4 x 19.9 mm (LxW max))
simulation model 84CNQ045SL (SUBCKT)
signal-integrity model 84CNQ045SL
pins: 1 A1, 2 K, 3 A2

## 84CNQ045SM
designator D?
Schottky Rectifier; Note: Pin 2 (cathode) is electrically connected to BASE; Published: 8-Jun-2000; LatestRevisionDate: 17-Jul-2002; LatestRevisionNote: Re-released for DXP Platform.; DatasheetDocument: Jan-1999; PackageDocument: Jan-1999; PackageReference: D61-8-SM; Publisher: Altium Limited; ComponentLink1Description: Manufacturer Link; ComponentLink1URL: http://www.irf.com/
footprint D61-8-SM (Rectangular Flange Mount, Thru-Hole; 3 Leads; Pitch 5.08 mm)
simulation model 84CNQ045SM (SUBCKT)
signal-integrity model 84CNQ045SM
pins: 1 A1, 2 K, 3 A2

## 85CNQ015
designator D?
Schottky Rectifier; Note: Pin 2 (cathode) is electrically connected to BASE; Published: 8-Jun-2000; LatestRevisionDate: 17-Jul-2002; LatestRevisionNote: Re-released for DXP Platform.; DatasheetDocument: Jan-1999; PackageDocument: Jan-1999; PackageReference: D61-8; Publisher: Altium Limited; ComponentLink1Description: Manufacturer Link; ComponentLink1URL: http://www.irf.com/; ComponentLink2Description: Datasheet; ComponentLink2URL: http://www.irf.com/product-info/datasheets/data/85cnq015.pdf
footprint D61-8 (Rectangular Flange Mount, Thru-Hole; 3 Leads; Pitch 5.08 mm)
signal-integrity model 85CNQ015
pins: 1 A1, 2 K, 3 A2

## 85CNQ015SL
designator D?
Schottky Rectifier; Note: Pin 2 (cathode) is trimmed but is electrically connected to BASE; Published: 8-Jun-2000; LatestRevisionDate: 17-Jul-2002; LatestRevisionNote: Re-released for DXP Platform.; DatasheetDocument: Jan-1999; PackageDocument: Jan-1999; PackageReference: D61-8-SL; Publisher: Altium Limited; ComponentLink1Description: Manufacturer Link; ComponentLink1URL: http://www.irf.com/; ComponentLink2Description: Datasheet; ComponentLink2URL: http://www.irf.com/product-info/datasheets/data/85cnq015.pdf
footprint D61-8-SL (Single-Ended SM Package; 3 Leads (1 Cropped); Body (inc. leads) 14.4 x 19.9 mm (LxW max))
signal-integrity model 85CNQ015SL
pins: 1 A1, 2 K, 3 A2

## 85CNQ015SM
designator D?
Schottky Rectifier; Note: Pin 2 (cathode) is electrically connected to BASE; Published: 8-Jun-2000; LatestRevisionDate: 17-Jul-2002; LatestRevisionNote: Re-released for DXP Platform.; DatasheetDocument: Jan-1999; PackageDocument: Jan-1999; PackageReference: D61-8SM; Publisher: Altium Limited; ComponentLink1Description: Manufacturer Link; ComponentLink1URL: http://www.irf.com/; ComponentLink2Description: Datasheet; ComponentLink2URL: http://www.irf.com/product-info/datasheets/data/85cnq015.pdf
footprint D61-8SM (Rectangular Flange Mount, Thru-Hole; 3 Leads; Pitch 5.08 mm)
signal-integrity model 85CNQ015SM
pins: 1 A1, 2 K, 3 A2

## 85HQ035
designator D?
Schottky Rectifier; Note: No PCB Footprint Available; Published: 8-Jun-2000; LatestRevisionDate: 17-Jul-2002; LatestRevisionNote: Re-released for DXP Platform.; DatasheetDocument: Dec-1997; PackageReference: DO-203AB; Publisher: Altium Limited; ComponentLink1Description: Manufacturer Link; ComponentLink1URL: http://www.irf.com/; ComponentLink2Description: Datasheet; ComponentLink2URL: http://www.irf.com/product-info/datasheets/data/85hq.pdf
simulation model 85HQ035 (DIODE)
signal-integrity model 85HQ035
pins: 1 A, 2 K

## 85HQ040
designator D?
Schottky Rectifier; Note: No PCB Footprint Available; Published: 8-Jun-2000; LatestRevisionDate: 17-Jul-2002; LatestRevisionNote: Re-released for DXP Platform.; DatasheetDocument: Dec-1997; PackageReference: DO-203AB; Publisher: Altium Limited; ComponentLink1Description: Manufacturer Link; ComponentLink1URL: http://www.irf.com/; ComponentLink2Description: Datasheet; ComponentLink2URL: http://www.irf.com/product-info/datasheets/data/85hq.pdf
simulation model 85HQ040 (DIODE)
signal-integrity model 85HQ040
pins: 1 A, 2 K

## 85HQ045
designator D?
Schottky Rectifier; Note: No PCB Footprint Available; Published: 8-Jun-2000; LatestRevisionDate: 17-Jul-2002; LatestRevisionNote: Re-released for DXP Platform.; DatasheetDocument: Dec-1997; PackageReference: DO-203AB; Publisher: Altium Limited; ComponentLink1Description: Manufacturer Link; ComponentLink1URL: http://www.irf.com/; ComponentLink2Description: Datasheet; ComponentLink2URL: http://www.irf.com/product-info/datasheets/data/85hq.pdf
simulation model 85HQ045 (DIODE)
signal-integrity model 85HQ045
pins: 1 A, 2 K

## 87CNQ020
designator D?
Schottky Rectifier; Published: 8-Jun-2000; LatestRevisionDate: 17-Jul-2002; LatestRevisionNote: Re-released for DXP Platform.; DatasheetDocument: Dec-1997; PackageDocument: Jan-1999; PackageReference: D61-8; Publisher: Altium Limited; ComponentLink1Description: Manufacturer Link; ComponentLink1URL: http://www.irf.com/
footprint D61-8 (Rectangular Flange Mount, Thru-Hole; 3 Leads; Pitch 5.08 mm)
signal-integrity model 87CNQ020
pins: 1 A1, 2 K, 3 A2

## 88CNQ060
designator D?
Schottky Rectifier; Note: Pin 2 (cathode) is electrically connected to BASE; Published: 8-Jun-2000; LatestRevisionDate: 17-Jul-2002; LatestRevisionNote: Re-released for DXP Platform.; DatasheetDocument: Sep-1995; PackageDocument: Jan-1999; PackageReference: D61-8; Publisher: Altium Limited; ComponentLink1Description: Manufacturer Link; ComponentLink1URL: http://www.irf.com/; ComponentLink2Description: Datasheet; ComponentLink2URL: http://www.irf.com/product-info/datasheets/data/88cnq060.pdf
footprint D61-8 (Rectangular Flange Mount, Thru-Hole; 3 Leads; Pitch 5.08 mm)
signal-integrity model 88CNQ060
pins: 1 A1, 2 K, 3 A2

## 90CLQ100
designator D?
Schottky Rectifier; Published: 17-Sep-2003; DatasheetDocument: 23-Oct-2000; PackageDocument: 10-Jul-2001; PackageReference: SMD-1; Publisher: Altium Limited; ComponentLink1Description: Manufacturer Link; ComponentLink1URL: http://www.irf.com/; ComponentLink2Description: Datasheet; ComponentLink2URL: http://www.irf.com/product-info/datasheets/data/90CLQ100.pdf
footprint SMD-1 (SM; 3 Leadless Terminals; Body 16 x 11.55 x 3.58 mm (LxWxH))
simulation model 90CLQ100 (SUBCKT)
pins: 1 K, 2 A1, 3 A2

## 90SQ035
designator D?
Schottky Rectifier; Published: 8-Jun-2000; LatestRevisionDate: 17-Jul-2002; LatestRevisionNote: Re-released for DXP Platform.; DatasheetDocument: Dec-1997; PackageReference: DO-204AR; Publisher: Altium Limited; Code_JEDEC: DO-204-AR; ComponentLink1Description: Manufacturer Link; ComponentLink1URL: http://www.irf.com/; ComponentLink2Description: Datasheet; ComponentLink2URL: http://www.irf.com/product-info/datasheets/data/90sq.pdf
footprint DO-204AR (Diode, Axial; Body 9.5 x 6.4 mm (LxDia. max), Lead Dia. 1.32 mm (max))
signal-integrity model 90SQ035
pins: 1 A, 2 K

## 90SQ040
designator D?
Schottky Rectifier; Published: 8-Jun-2000; LatestRevisionDate: 17-Jul-2002; LatestRevisionNote: Re-released for DXP Platform.; DatasheetDocument: Dec-1997; PackageReference: DO-204AR; Publisher: Altium Limited; Code_JEDEC: DO-204-AR; ComponentLink1Description: Manufacturer Link; ComponentLink1URL: http://www.irf.com/; ComponentLink2Description: Datasheet; ComponentLink2URL: http://www.irf.com/product-info/datasheets/data/90sq.pdf
footprint DO-204AR (Diode, Axial; Body 9.5 x 6.4 mm (LxDia. max), Lead Dia. 1.32 mm (max))
signal-integrity model 90SQ040
pins: 1 A, 2 K

## 90SQ045
designator D?
Schottky Rectifier; Published: 8-Jun-2000; LatestRevisionDate: 17-Jul-2002; LatestRevisionNote: Re-released for DXP Platform.; DatasheetDocument: Dec-1997; PackageReference: DO-204AR; Publisher: Altium Limited; Code_JEDEC: DO-204-AR; ComponentLink1Description: Manufacturer Link; ComponentLink1URL: http://www.irf.com/; ComponentLink2Description: Datasheet; ComponentLink2URL: http://www.irf.com/product-info/datasheets/data/90sq.pdf
footprint DO-204AR (Diode, Axial; Body 9.5 x 6.4 mm (LxDia. max), Lead Dia. 1.32 mm (max))
signal-integrity model 90SQ045
pins: 1 A, 2 K

## 95SQ015
designator D?
Schottky Rectifier; Published: 8-Jun-2000; LatestRevisionDate: 17-Jul-2002; LatestRevisionNote: Re-released for DXP Platform.; DatasheetDocument: Dec-1997; PackageReference: DO-204AR; Publisher: Altium Limited; Code_JEDEC: DO-204-AR; ComponentLink1Description: Manufacturer Link; ComponentLink1URL: http://www.irf.com/; ComponentLink2Description: Datasheet; ComponentLink2URL: http://www.irf.com/product-info/datasheets/data/95sq015.pdf
footprint DO-204AR (Diode, Axial; Body 9.5 x 6.4 mm (LxDia. max), Lead Dia. 1.32 mm (max))
signal-integrity model 95SQ015
pins: 1 A, 2 K

## 120NQ035
designator D?
Schottky Rectifier; PackageDocument: Rev. B,  Feb-2001; Note: Land pattern features silkscreen outline and mounting holes.; Published: 8-Jun-2000; LatestRevisionDate: 17-Jul-2002; LatestRevisionNote: Re-released for DXP Platform.; DatasheetDocument: Dec-1997; PackageReference: HALF-PAK; Publisher: Altium Limited; ComponentLink1Description: Manufacturer Link; ComponentLink1URL: http://www.irf.com/; ComponentLink2Description: Datasheet; ComponentLink2URL: http://www.irf.com/product-info/datasheets/data/120nq.pdf
footprint HALF-PAK (Half-Pak Module; 1 Lug Terminal, 1 Base Terminal; Body 39.62 x 19.69 x 15.11 mm (LxWxH max))
simulation model 120NQ035 (DIODE)
signal-integrity model 120NQ035
pins: 1 A, 2 K

## 120NQ040
designator D?
Schottky Rectifier; PackageDocument: Rev. B,  Feb-2001; Note: Land pattern features silkscreen outline and mounting holes.; Published: 8-Jun-2000; LatestRevisionDate: 17-Jul-2002; LatestRevisionNote: Re-released for DXP Platform.; DatasheetDocument: Dec-1997; PackageReference: HALF-PAK; Publisher: Altium Limited; ComponentLink1Description: Manufacturer Link; ComponentLink1URL: http://www.irf.com/; ComponentLink2Description: Datasheet; ComponentLink2URL: http://www.irf.com/product-info/datasheets/data/120nq.pdf
footprint HALF-PAK (Half-Pak Module; 1 Lug Terminal, 1 Base Terminal; Body 39.62 x 19.69 x 15.11 mm (LxWxH max))
simulation model 120NQ040 (DIODE)
signal-integrity model 120NQ040
pins: 1 A, 2 K

## 120NQ045
designator D?
Schottky Rectifier; PackageDocument: Rev. B,  Feb-2001; Note: Land pattern features silkscreen outline and mounting holes.; Published: 8-Jun-2000; LatestRevisionDate: 17-Jul-2002; LatestRevisionNote: Re-released for DXP Platform.; DatasheetDocument: Dec-1997; PackageReference: HALF-PAK; Publisher: Altium Limited; ComponentLink1Description: Manufacturer Link; ComponentLink1URL: http://www.irf.com/; ComponentLink2Description: Datasheet; ComponentLink2URL: http://www.irf.com/product-info/datasheets/data/120nq.pdf
footprint HALF-PAK (Half-Pak Module; 1 Lug Terminal, 1 Base Terminal; Body 39.62 x 19.69 x 15.11 mm (LxWxH max))
simulation model 120NQ045 (DIODE)
signal-integrity model 120NQ045
pins: 1 A, 2 K

## 121NQ035
designator D?
Schottky Rectifier; PackageDocument: Rev. B,  Feb-2001; Note: Land pattern features silkscreen outline and mounting holes.; Published: 8-Jun-2000; LatestRevisionDate: 17-Jul-2002; LatestRevisionNote: Re-released for DXP Platform.; DatasheetDocument: Dec-1997; PackageReference: HALF-PAK; Publisher: Altium Limited; ComponentLink1Description: Manufacturer Link; ComponentLink1URL: http://www.irf.com/; ComponentLink2Description: Datasheet; ComponentLink2URL: http://www.irf.com/product-info/datasheets/data/10bq60.pdf
footprint HALF-PAK (Half-Pak Module; 1 Lug Terminal, 1 Base Terminal; Body 39.62 x 19.69 x 15.11 mm (LxWxH max))
simulation model 121NQ035 (DIODE)
signal-integrity model 121NQ035
pins: 1 A, 2 K

## 121NQ040
designator D?
Schottky Rectifier; PackageDocument: Rev. B,  Feb-2001; Note: Land pattern features silkscreen outline and mounting holes.; Published: 8-Jun-2000; LatestRevisionDate: 17-Jul-2002; LatestRevisionNote: Re-released for DXP Platform.; DatasheetDocument: Dec-1997; PackageReference: HALF-PAK; Publisher: Altium Limited; ComponentLink1Description: Manufacturer Link; ComponentLink1URL: http://www.irf.com/; ComponentLink2Description: Datasheet; ComponentLink2URL: http://www.irf.com/product-info/datasheets/data/10bq60.pdf
footprint HALF-PAK (Half-Pak Module; 1 Lug Terminal, 1 Base Terminal; Body 39.62 x 19.69 x 15.11 mm (LxWxH max))
simulation model 121NQ040 (DIODE)
signal-integrity model 121NQ040
pins: 1 A, 2 K

## 121NQ045
designator D?
Schottky Rectifier; PackageDocument: Rev. B,  Feb-2001; Note: Land pattern features silkscreen outline and mounting holes.; Published: 8-Jun-2000; LatestRevisionDate: 17-Jul-2002; LatestRevisionNote: Re-released for DXP Platform.; DatasheetDocument: Dec-1997; PackageReference: HALF-PAK; Publisher: Altium Limited; ComponentLink1Description: Manufacturer Link; ComponentLink1URL: http://www.irf.com/; ComponentLink2Description: Datasheet; ComponentLink2URL: http://www.irf.com/product-info/datasheets/data/10bq60.pdf
footprint HALF-PAK (Half-Pak Module; 1 Lug Terminal, 1 Base Terminal; Body 39.62 x 19.69 x 15.11 mm (LxWxH max))
simulation model 121NQ045 (DIODE)
signal-integrity model 121NQ045
pins: 1 A, 2 K

## 122NQ030
designator D?
Schottky Rectifier; PackageDocument: Rev. B,  Feb-2001; Note: Land pattern features silkscreen outline and mounting holes.; Published: 8-Jun-2000; LatestRevisionDate: 17-Jul-2002; LatestRevisionNote: Re-released for DXP Platform.; DatasheetDocument: Dec-1997; PackageReference: HALF-PAK; Publisher: Altium Limited; ComponentLink1Description: Manufacturer Link; ComponentLink1URL: http://www.irf.com/; ComponentLink2Description: Datasheet; ComponentLink2URL: http://www.irf.com/product-info/datasheets/data/122nq030.pdf
footprint HALF-PAK (Half-Pak Module; 1 Lug Terminal, 1 Base Terminal; Body 39.62 x 19.69 x 15.11 mm (LxWxH max))
simulation model 122NQ030 (DIODE)
signal-integrity model 122NQ030
pins: 1 A, 2 K

## 123NQ080
designator D?
Schottky Rectifier; PackageDocument: Rev. B,  Feb-2001; Note: Land pattern features silkscreen outline and mounting holes.; Published: 8-Jun-2000; LatestRevisionDate: 17-Jul-2002; LatestRevisionNote: Re-released for DXP Platform.; DatasheetDocument: Dec-1997; PackageReference: HALF-PAK; Publisher: Altium Limited; ComponentLink1Description: Manufacturer Link; ComponentLink1URL: http://www.irf.com/; ComponentLink2Description: Datasheet; ComponentLink2URL: http://www.irf.com/product-info/datasheets/data/123nq.pdf
footprint HALF-PAK (Half-Pak Module; 1 Lug Terminal, 1 Base Terminal; Body 39.62 x 19.69 x 15.11 mm (LxWxH max))
simulation model 123NQ080 (DIODE)
signal-integrity model 123NQ080
pins: 1 A, 2 K

## 123NQ100
designator D?
Schottky Rectifier; PackageDocument: Rev. B,  Feb-2001; Note: Land pattern features silkscreen outline and mounting holes.; Published: 8-Jun-2000; LatestRevisionDate: 17-Jul-2002; LatestRevisionNote: Re-released for DXP Platform.; DatasheetDocument: Dec-1997; PackageReference: HALF-PAK; Publisher: Altium Limited; ComponentLink1Description: Manufacturer Link; ComponentLink1URL: http://www.irf.com/; ComponentLink2Description: Datasheet; ComponentLink2URL: http://www.irf.com/product-info/datasheets/data/123nq.pdf
footprint HALF-PAK (Half-Pak Module; 1 Lug Terminal, 1 Base Terminal; Body 39.62 x 19.69 x 15.11 mm (LxWxH max))
simulation model 123NQ100 (DIODE)
signal-integrity model 123NQ100
pins: 1 A, 2 K

## 124NQ035
designator D?
Schottky Rectifier; PackageDocument: Rev. B,  Feb-2001; Note: Land pattern features silkscreen outline and mounting holes.; ComponentAvailability: Obsolete; Published: 8-Jun-2000; LatestRevisionDate: 17-Jul-2002; LatestRevisionNote: Re-released for DXP Platform.; DatasheetDocument: Dec-1997; PackageReference: HALF-PAK; Publisher: Altium Limited; ComponentLink1Description: Manufacturer Link; ComponentLink1URL: http://www.irf.com/
footprint HALF-PAK (Half-Pak Module; 1 Lug Terminal, 1 Base Terminal; Body 39.62 x 19.69 x 15.11 mm (LxWxH max))
simulation model 124NQ035 (DIODE)
signal-integrity model 124NQ035
pins: 1 A, 2 K

## 124NQ040
designator D?
Schottky Rectifier; PackageDocument: Rev. B,  Feb-2001; Note: Land pattern features silkscreen outline and mounting holes.; ComponentAvailability: Obsolete; Published: 8-Jun-2000; LatestRevisionDate: 17-Jul-2002; LatestRevisionNote: Re-released for DXP Platform.; DatasheetDocument: Dec-1997; PackageReference: HALF-PAK; Publisher: Altium Limited; ComponentLink1Description: Manufacturer Link; ComponentLink1URL: http://www.irf.com/
footprint HALF-PAK (Half-Pak Module; 1 Lug Terminal, 1 Base Terminal; Body 39.62 x 19.69 x 15.11 mm (LxWxH max))
simulation model 124NQ040 (DIODE)
signal-integrity model 124NQ040
pins: 1 A, 2 K

## 124NQ045
designator D?
Schottky Rectifier; PackageDocument: Rev. B,  Feb-2001; Note: Land pattern features silkscreen outline and mounting holes.; ComponentAvailability: Obsolete; Published: 8-Jun-2000; LatestRevisionDate: 17-Jul-2002; LatestRevisionNote: Re-released for DXP Platform.; DatasheetDocument: Dec-1997; PackageReference: HALF-PAK; Publisher: Altium Limited; ComponentLink1Description: Manufacturer Link; ComponentLink1URL: http://www.irf.com/
footprint HALF-PAK (Half-Pak Module; 1 Lug Terminal, 1 Base Terminal; Body 39.62 x 19.69 x 15.11 mm (LxWxH max))
simulation model 124NQ045 (DIODE)
signal-integrity model 124NQ045
pins: 1 A, 2 K

## 125NQ015
designator D?
Schottky Rectifier; PackageDocument: Rev. B,  Feb-2001; Note: Land pattern features silkscreen outline and mounting holes.; Published: 8-Jun-2000; LatestRevisionDate: 17-Jul-2002; LatestRevisionNote: Re-released for DXP Platform.; DatasheetDocument: Dec-1997; PackageReference: HALF-PAK; Publisher: Altium Limited; ComponentLink1Description: Manufacturer Link; ComponentLink1URL: http://www.irf.com/; ComponentLink2Description: Datasheet; ComponentLink2URL: http://www.irf.com/product-info/datasheets/data/125nq015.pdf
footprint HALF-PAK (Half-Pak Module; 1 Lug Terminal, 1 Base Terminal; Body 39.62 x 19.69 x 15.11 mm (LxWxH max))
simulation model 125NQ015 (DIODE)
signal-integrity model 125NQ015
pins: 1 A, 2 K